# EAGLE library part LM5017 (library isystems)
LM5017 100-V, 600-mA Constant On-Time Synchronous Buck Regulator Features Wide 7.5-V to 100-V Input Range Integrated 100-V High-Side, and Low-Side Switches No Schottky Required Constant On-Time Control No Loop Compensation Required Ultra-Fast Transient Response Nearly Constant Operating Frequency Intelligent Peak Current Limit Adjustable Output Voltage From 1.225 V Precision 2% Feedback Reference Frequency Adjustable to 1 MHz Adjustable Undervoltage Lockout (UVLO) Remote Shutdown Thermal Shutdown Packages: WSON-8 SO PowerPAD-8 Applications Smart Power Meters Telecommunication Systems Automotive Electronics Isolated Bias Supply
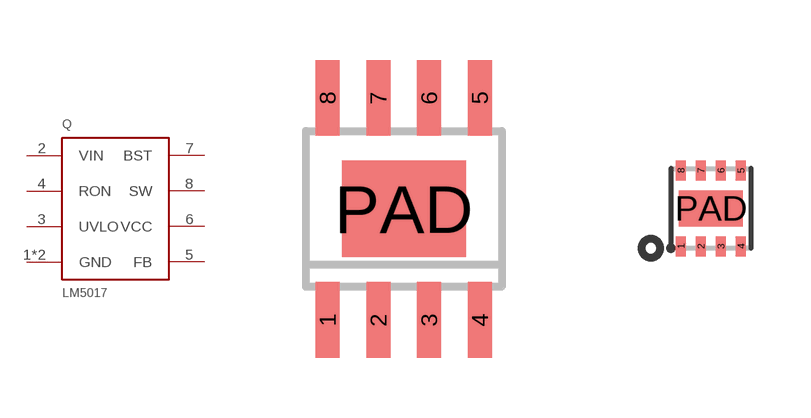
[diagram p50: symbol with the pads of SO_POWERPAD-08; footprints SO_POWERPAD-08, WSON-8-PAD]

Designator prefix Q

## LM5017MR  [SO_POWERPAD-08]
1  GND  pwr
2  VIN  pwr
3  UVLO
4  RON
5  FB
6  VCC  pwr
7  BST
8  SW
PAD  GND  pwr

## LM5017SD  [WSON-8-PAD]
Pads as for SO_POWERPAD-08

## Footprint SO_POWERPAD-08 (pad centres in mm)
Small Outline Narrow Plastic Gull Wing with PowerPad 150-mil body, package type SN Based on LM5017 Datasheet
smd 0.6 x 1.9: 1 -1.905,-2.78; 2 -0.635,-2.78; 3 0.635,-2.78; 4 1.905,-2.78; 5 1.905,2.78; 6 0.635,2.78; 7 -0.635,2.78; 8 -1.905,2.78
smd 3.1 x 2.41: PAD 0,0

## Footprint WSON-8-PAD (pad centres in mm)
smd 0.25 x 0.5: 1 -0.75,-0.95; 2 -0.25,-0.95; 3 0.25,-0.95; 4 0.75,-0.95; 5 0.75,0.95; 6 0.25,0.95; 7 -0.25,0.95; 8 -0.75,0.95
smd 1.6 x 0.9: PAD 0,0